# Altium schematic symbol library BJT.SchLib: 5 symbols
Pins are listed as number, name and electrical type; pins without a type are passive.

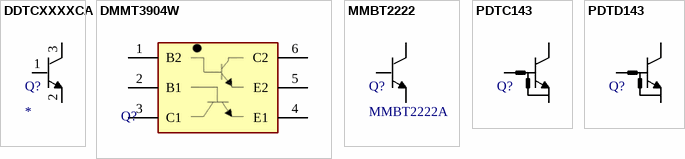
[diagram p0: symbols DDTCXXXXCA to PDTD143]

## DDTCXXXXCA
designator Q?, comment ERP_105-1  (value not drawn)
TRANS PREBIAS NPN 50V SOT23-3; ERP: *; Suuplier Part Number 1: *; Supplier 1: *; Manufacturer Part Number 1: *; Manufacturer 1: *; Package: SOT23; Value: *
footprint DDTCXXXXCA
pins: 1, 2, 3

## DMMT3904W
designator Q?
-65℃~+150℃ 100@10mA,1.0V 2 NPN 200mA 200mV 200mW 300MHz 40V 50nA 6V NPN SC-70-6(SOT-363) Bipolar (BJT) ROHS; Manufacturer 1: *; Manufacturer Part Number 1: *; Package: *; Supplier 1: *; Supplier Part Number 1: *
footprint SOT36P205X100-6L (SOT36, 6-Leads, Body 1.98x2.05mm, Pitch 0.65mm, IPC High Density)
pins: 1 B2, 2 B1, 3 C1, 4 E1, 5 E2, 6 C2

## MMBT2222
designator Q?, comment value MMBT2222A  (hidden comment: ERP_105-1)
MMBT2222A; ERP: *; Suuplier Part Number 1: *; Supplier 1: *; Manufacturer Part Number 1: *; Manufacturer 1: *; Package: SOT23
footprint MMBT2222
pins: 1, 2, 3

## PDTC143
designator Q?
Pre-Biased Bipolar Transistor (BJT) NPN - Pre-Biased 50 V 100 mA 230 MHz 250 mW Surface Mount TO-236AB; Manufacturer 1: Nexperia USA Inc.; Manufacturer Part Number 1: *; Package: SOT-23-3; Value: *
footprint SOT95P230X110-3L (SOT23, 3-Leads, Body 2.90x2.30mm, Pitch 0.95mm, IPC High Density)
pins: 1, 2, 3

## PDTD143
designator Q?
Pre-Biased Bipolar Transistor (BJT) NPN - Pre-Biased 50 V 500 mA 225 MHz 320 mW Surface Mount TO-236AB; Manufacturer 1: Nexperia USA Inc.; Manufacturer Part Number 1: *; Package: SOT-23-3; Value: *
footprint SOT95P230X110-3L (SOT23, 3-Leads, Body 2.90x2.30mm, Pitch 0.95mm, IPC High Density)
pins: 1, 2, 3